# Altium schematic symbol library Socket.SchLib: 57 symbols (part 2 of 2)
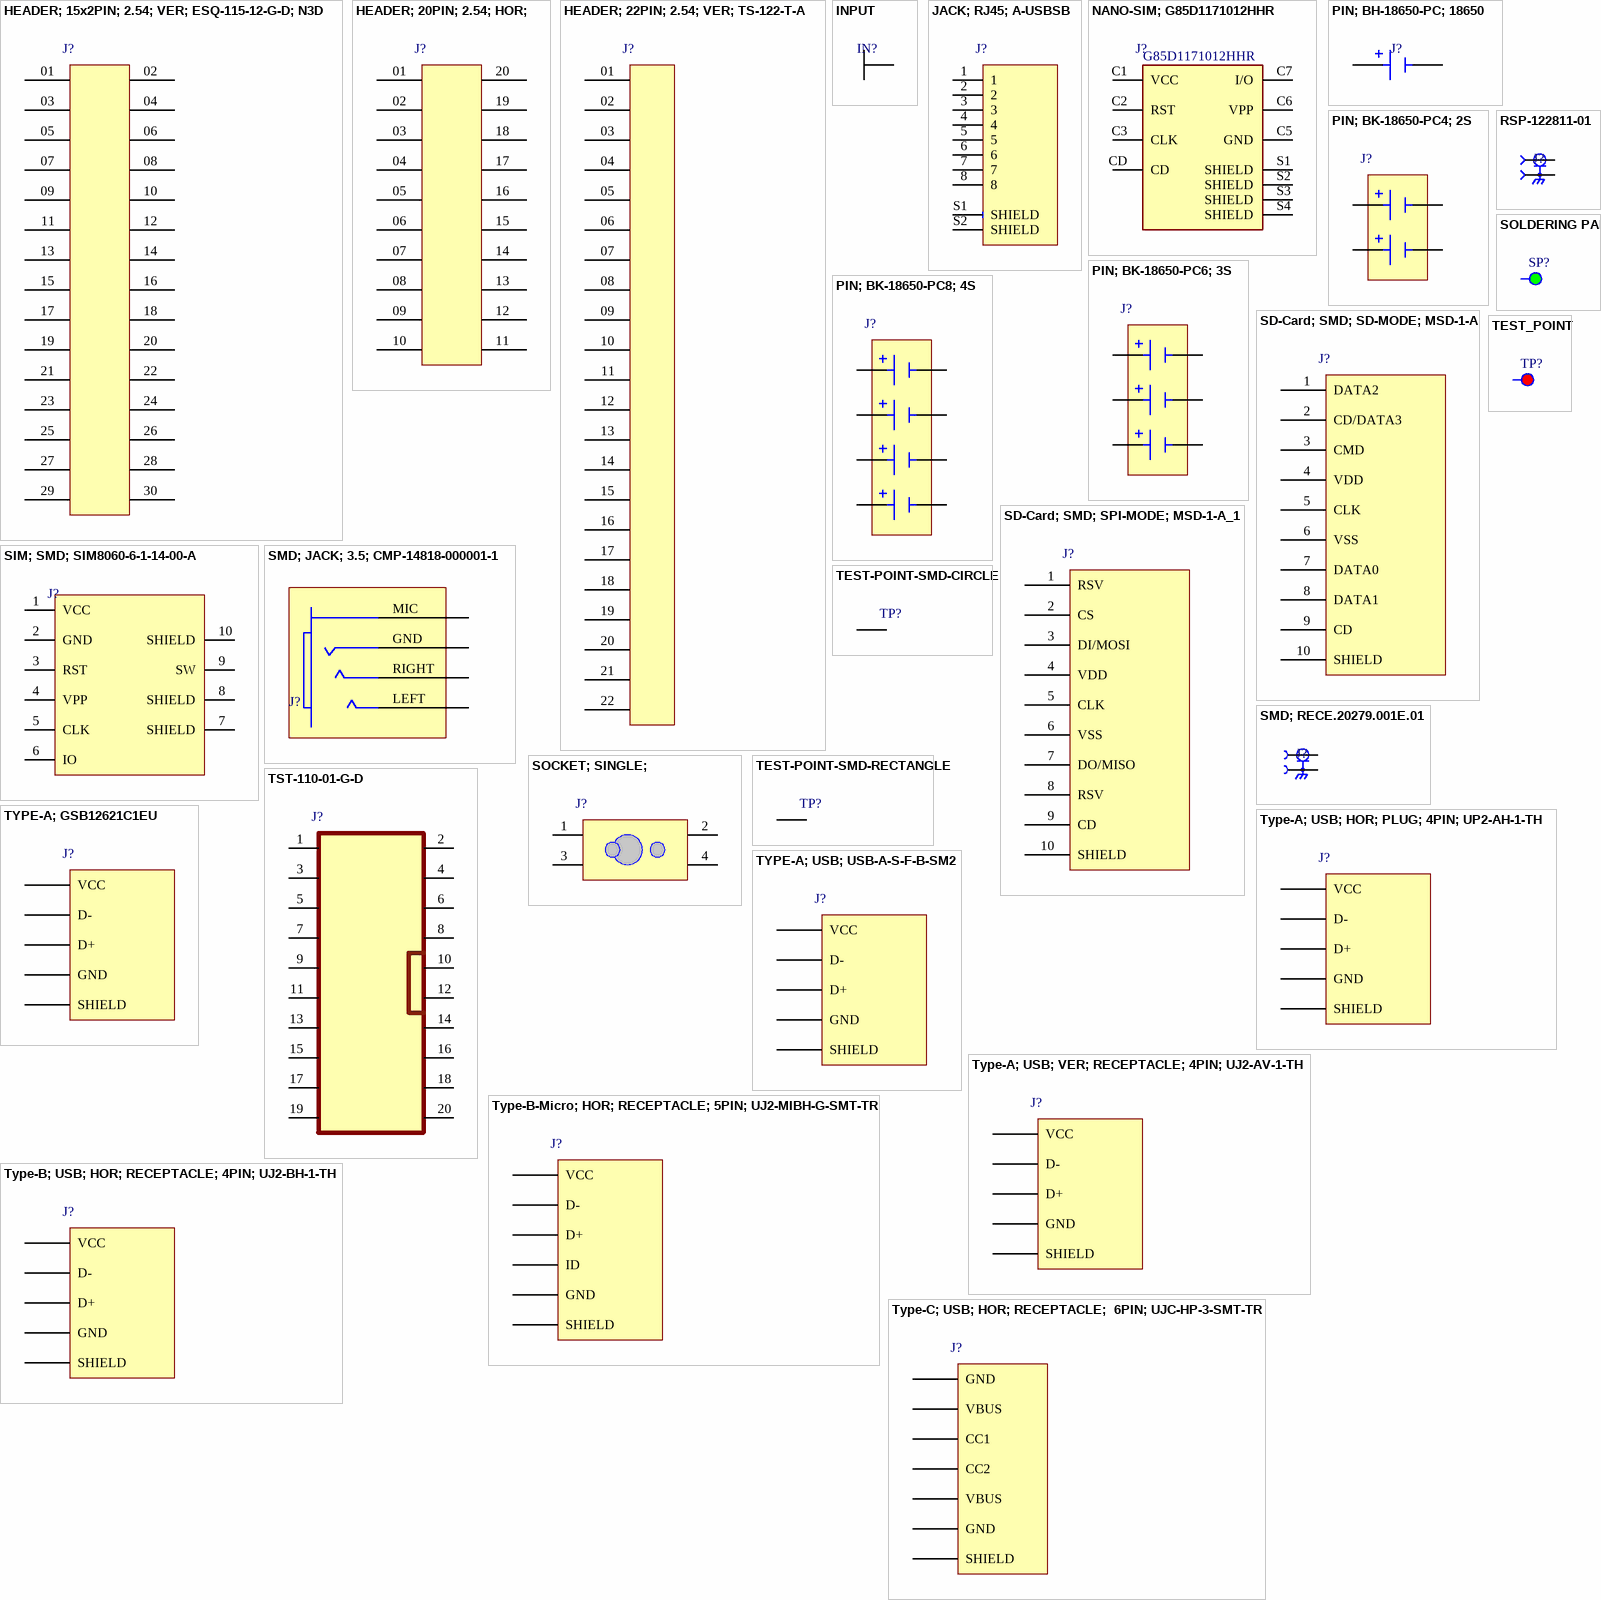
[diagram p3: symbols HEADER; 15x2PIN; 2.54; VER; ESQ-115-12-G-D; N3D to Type-C; USB; HOR; RECEPTACLE;  6PIN; UJC-HP-3-SMT-TR]

## SOCKET; SINGLE;
designator J?, comment Connector Header Through Hole 4 position 0.100" (2.54mm)  (value not drawn)
Conn Unshrouded Header HDR 4 POS 2.54mm Solder ST Thru-Hole Automotive Bulk; Manufacturer: Samtec; Manufacturer Part Number: TSW-104-14-L-S; Designer: TVBac; Supplier: Digikey; Supplier Part Number: SAM1055-04-ND; RoHS: Yes; Category: Connectors; Stock: 1246; Pricing: 1=0.43, 10=0.377, 100=0.3107, 500=0.2702, 1000=0.22291, 5000=0.19589, 10000=0.18238 (USD); ComponentLink1URL: https://datasheet.ciiva.com/25618/0900766b81154476-25618487.pdf?src-supplier=Rs; ComponentLink1Description: https://datasheet.ciiva.com/25618/0900766b81154476-25618487.pdf?src-supplier=Rs; ComponentLink2URL: https://datasheet.ciiva.com/10190/htsw-th-10190703.pdf?src-supplier=Avnet; ComponentLink2Description: https://datasheet.ciiva.com/10190/htsw-th-10190703.pdf?src-supplier=Avnet; ComponentLink3Description: Link Digikey; ComponentLink3URL: https://www.digikey.com/en/products/detail/samtec-inc/TSW-104-14-L-S/1102620
footprint SOCKET-SINGLE-WEV1081H
pins: 1, 2, 3, 4

## SOLDERING PAD
designator SP?, comment SP  (value not drawn)  (no BOM)
Soldering Pad
footprint SOLDERING PAD BIG
footprint SOLDERING PAD SMALL
footprint SOLDERING PAD BIG 2
footprint SOLDERING PAD BIG 3
footprint SOLDERING PAD BIG 4
footprint SOLDERING PAD BIG 5
pins: 1

## TEST-POINT-SMD-CIRCLE
designator TP?  (value not drawn)
footprint TEST - POINT - CIRCLE
pins: 1

## TEST-POINT-SMD-RECTANGLE
designator TP?  (value not drawn)
footprint TEST-POINT - RECTANGLE
pins: 1

## TEST_POINT
designator TP?, comment Test Point  (value not drawn)
footprint TEST_POINT
footprint TEST_POINT Small
pins: 1

## TST-110-01-G-D
designator J?, comment Connector Header Through Hole 20 position 0.100" (2.54mm)  (value not drawn)
Conn Shrouded Header (4 Sides) HDR 20 POS 2.54mm Solder ST Top Entry Thru-Hole Bulk; Manufacturer: Samtec; Manufacturer Part Number: TST-110-01-G-D; Gender: 29Gender; Supplier: Avnet; Supplier Part Number: TST-110-01-G-D; RoHS: Yes; Category: Connectors; Stock: 3089; Pricing: 1=1.69024 (USD); RoHS Compliant: 5897YesNo; ComponentLink1URL: https://datasheet.ciiva.com/36535/184htst-36535291.pdf?src-supplier=Onlinecomponents.com; ComponentLink1Description: https://datasheet.ciiva.com/36535/184htst-36535291.pdf?src-supplier=Onlinecomponents.com; ComponentLink2URL: https://datasheet.ciiva.com/739/tst-mkt-739851.pdf?src-supplier=Digikey; ComponentLink2Description: https://datasheet.ciiva.com/739/tst-mkt-739851.pdf?src-supplier=Digikey; ComponentLink3URL: https://datasheet.ciiva.com/9474/htst-9474933.pdf?src-supplier=Avnet; ComponentLink3Description: https://datasheet.ciiva.com/9474/htst-9474933.pdf?src-supplier=Avnet; System: Connector
footprint CONN-10x2-2.54-SI
pins: 1, 2, 3, 4, 5, 6, 7, 8, 9, 10, 11, 12, 13, 14, 15, 16, 17, 18, 19, 20

## TYPE-A; GSB12621C1EU
designator J?, comment USB2.0 A RECEPT,RIGHT ANGLE, SIN  (value not drawn)
Manufacturer: Amphenol; Manufacturer Part Number: GSB12621C1EU; Supplier: Digikey; Supplier Part Number: 664-GSB12621C1EUTR-ND; RoHS: No; Pricing: 18000=0.29575 (USD)
footprint TYPE-A-RECEPTACLE-GSB12621C1EU-AIIC
footprint TYPE-A-RECEPTACLE-GSB12621C1EU-AIIC - CHANGE
footprint TYPE-A-RECEPTACLE-629104190121 (USB 2.0 Type A Horizontal SMT Short Type)
footprint TYPE-A-RECEPTACLE-629104190121 - CHANGE (USB 2.0 Type A Horizontal SMT Short Type)
pins: 1 VCC, 2 D-, 3 D+, 4 GND, SHIELD

## Type-A; USB; HOR; PLUG; 4PIN; UP2-AH-1-TH
designator J?, comment USB-A (USB TYPE-A) USB 2.0 Plug Connector 4 Position Through Hole, Right Angle  (value not drawn)
Type A, USB 2.0, 1 A, Right Angle, Through Hole, USB Plug Connector; Manufacturer: CUI Devices; Manufacturer Part Number: UP2-AH-1-TH; Number of Contacts: 4; Mating Cycles: 1500; Shielding: Shielded; Number of Ports: 1; Designer: TVBac; Supplier: Digikey; Supplier Part Number: 102-3996-ND; RoHS: Yes; Category: USB Connectors; Stock: 7149; Pricing: 1=0.8, 10=0.606, 25=0.5448, 40=0.516, 144=0.44611, 288=0.41299, 576=0.38293, 1008=0.3607, 2448=0.32886 (USD); Mounting Technology: Through Hole,Horizontal; Contact Plating: Gold; Insulation Color: Black; Min Operating Temperature: -20°C; Max Operating Temperature: 85°C; Connector Type: USB; Series: UP2; Termination: Solder; Flammability Rating: UL94 V-0; ComponentLink1URL: https://www.cuidevices.com/product/resource/digikeypdf/up2-ah-th.pdf?src-supplier=Digikey; ComponentLink1Description: https://www.cuidevices.com/product/resource/digikeypdf/up2-ah-th.pdf?src-supplier=Digikey; ComponentLink2URL: https://datasheet.octopart.com/UP2-AH-1-TH-CUI-Devices-datasheet-175928036.pdf?src-supplier=Future+Electronics; ComponentLink2Description: https://datasheet.octopart.com/UP2-AH-1-TH-CUI-Devices-datasheet-175928036.pdf?src-supplier=Future+Electronics; ComponentLink3URL: https://datasheet.octopart.com/UP2-AH-1-TH-CUI-Devices-datasheet-103115219.pdf?src-supplier=Electro+Sonic; ComponentLink3Description: https://datasheet.octopart.com/UP2-AH-1-TH-CUI-Devices-datasheet-103115219.pdf?src-supplier=Electro+Sonic; ComponentLink4URL: https://datasheet.octopart.com/UP2-AH-1-TH-CUI-Devices-datasheet-175925752.pdf?src-supplier=Master+Electronics; ComponentLink4Description: https://datasheet.octopart.com/UP2-AH-1-TH-CUI-Devices-datasheet-175925752.pdf?src-supplier=Master+Electronics; ComponentLink5Description: Link Digikey; ComponentLink5URL: https://www.digikey.com/en/products/detail/same-sky-formerly-cui-devices/UP2-AH-1-TH/6187911
footprint TYPE-A-HOR-PLUG-4PIN-SS
pins: 1 VCC, 2 D-, 3 D+, 4 GND, SHIELD

## TYPE-A; USB; USB-A-S-F-B-SM2
designator J?, comment USB-A (USB TYPE-A) USB 2.0 Receptacle Connector 4 Position Surface Mount, Right Angle; Through Hole  (value not drawn)
Conn USB 2.0 Type A RCP 4 POS 2mm/2.5mm Solder RA SMD 4 Terminal 1 Port Tray; Manufacturer: Samtec; Manufacturer Part Number: USB-A-S-F-B-SM2; Number of Contacts: 4; Number of Ports: 1; Mating Cycles: 1500; Supplier: Avnet; Supplier Part Number: USB-A-S-F-B-SM2; RoHS: Yes; Category: Connectors; Stock: 1595; Pricing: 1=1.8228, 10=1.4235, 30=1.1349, 50=1.12905, 100=1.1232 (USD); Mounting Technology: Surface Mount,Horizontal; Contact Plating: Gold; Insulation Color: Black; Min Operating Temperature: -50°C; Max Operating Temperature: 85°C; Packaging: Tray; Termination: Solder; Orientation: Right Angle; Gender: Receptacle; Connector Type: USB; Series: USB-A; Radiation Hardening: No; Flammability Rating: UL94 V-0; RoHS Compliant: Yes; ComponentLink1URL: http://www.samtec.com/documents/webfiles/pdf/usb_a.pdf?src-supplier=Avnet; ComponentLink1Description: http://www.samtec.com/documents/webfiles/pdf/usb_a.pdf?src-supplier=Avnet; ComponentLink2URL: http://suddendocs.samtec.com/prints/usb-a-s-x-x-sm2-x-xx-mkt.pdf?src-supplier=Digikey; ComponentLink2Description: http://suddendocs.samtec.com/prints/usb-a-s-x-x-sm2-x-xx-mkt.pdf?src-supplier=Digikey
footprint TYPE-A-RECEPTACLE-USB-A-S-F-B-SM2
pins: 1 VCC, 2 D-, 3 D+, 4 GND, SHIELD

## Type-A; USB; VER; RECEPTACLE; 4PIN; UJ2-AV-1-TH
designator J?, comment USB-A (USB TYPE-A) USB 2.0 Receptacle Connector 4 Position Through Hole  (value not drawn)
Conn USB Type A F 4 POS 2mm Solder ST Thru-Hole 4 Terminal 1 Port; Manufacturer: CUI Devices; Manufacturer Part Number: UJ2-AV-1-TH; Designer: TVBac; Supplier: Digikey; Supplier Part Number: 102-3995-ND; RoHS: Yes; Category: USB Connectors; Stock: 8259; Pricing: 1=0.67, 10=0.583, 25=0.5332, 40=0.50175, 80=0.48088, 240=0.43904, 480=0.41815, 960=0.34497, 2400=0.3136 (USD); ComponentLink1URL: https://www.cuidevices.com/product/resource/digikeypdf/uj2-av-th.pdf?src-supplier=Digikey; ComponentLink1Description: https://www.cuidevices.com/product/resource/digikeypdf/uj2-av-th.pdf?src-supplier=Digikey; ComponentLink2URL: https://datasheet.octopart.com/UJ2-AV-1-TH-CUI-Devices-datasheet-141000536.pdf?src-supplier=Master+Electronics; ComponentLink2Description: https://datasheet.octopart.com/UJ2-AV-1-TH-CUI-Devices-datasheet-141000536.pdf?src-supplier=Master+Electronics; ComponentLink3Description: Link Digikey; ComponentLink3URL: https://www.digikey.com/en/products/detail/same-sky/UJ2-AV-1-TH/6187910
footprint TYPE-A-VER-RECEPTACLE-4PIN-SS
pins: 1 VCC, 2 D-, 3 D+, 4 GND, SHIELD

## Type-B-Micro; HOR; RECEPTACLE; 5PIN; UJ2-MIBH-G-SMT-TR
designator J?, comment USB - micro B USB 2.0 Receptacle Connector 5 Position Surface Mount  (value not drawn)
Conn Micro USB 2.0 Type B RCP 5 POS 0.65mm Solder RA SMD 5 Terminal 1 Port T/R; Manufacturer: Same Sky; Manufacturer Part Number: UJ2-MIBH-G-SMT-TR; Designer: TVBac; Supplier: Digikey; Supplier Part Number: 2223-UJ2-MIBH-G-SMT-TRCT-ND; RoHS: No; Category: USB Connectors; Stock: 5027; Pricing: 1=0.52, 10=0.392, 25=0.3524, 50=0.3254, 100=0.3005, 250=0.271, 500=0.25104 (USD); ComponentLink1Description: Link Digikey; ComponentLink1URL: https://www.digikey.com/en/products/detail/same-sky/UJ2-MIBH-G-SMT-TR/13680627
footprint TYPE-B-MICRO-HOR-RECEPTACLE-5PIN-SS
pins: 1 VCC, 2 D-, 3 D+, 4 ID, 5 GND, SHIELD

## Type-B; USB; HOR; RECEPTACLE; 4PIN; UJ2-BH-1-TH
designator J?, comment USB-B (USB TYPE-B) USB 2.0 Receptacle Connector 4 Position Through Hole, Right Angle  (value not drawn)
Conn USB Type B F 4 POS 2.54mm Solder RA Thru-Hole 4 Terminal 1 Port; Manufacturer: CUI Devices; Manufacturer Part Number: UJ2-BH-1-TH; USB Standard: 6108USBStandard; Designer: TVBac; Supplier: Digikey; Supplier Part Number: 102-3999-ND; RoHS: Yes; Category: USB Connectors; Stock: 51035; Pricing: 1=0.63, 10=0.547, 25=0.4996, 40=0.47025, 98=0.45061, 294=0.41146, 490=0.39188, 980=0.3233, 2450=0.29391 (USD); Pins: 4NUMBER; Features: 6303FeaturesType; Orientation: 5496OrientationType; Lead Free: 5697LeadFree; ComponentLink1URL: https://datasheet.octopart.com/UJ2-BH-1-TH-CUI-Devices-datasheet-142372266.pdf?src-supplier=Future+Electronics; ComponentLink1Description: https://datasheet.octopart.com/UJ2-BH-1-TH-CUI-Devices-datasheet-142372266.pdf?src-supplier=Future+Electronics; ComponentLink2URL: https://www.cuidevices.com/product/resource/digikeypdf/uj2-bh-th.pdf?src-supplier=Digikey; ComponentLink2Description: https://www.cuidevices.com/product/resource/digikeypdf/uj2-bh-th.pdf?src-supplier=Digikey; ComponentLink3URL: https://datasheet.octopart.com/UJ2-BH-1-TH-CUI-Devices-datasheet-141002029.pdf?src-supplier=Electro+Sonic; ComponentLink3Description: https://datasheet.octopart.com/UJ2-BH-1-TH-CUI-Devices-datasheet-141002029.pdf?src-supplier=Electro+Sonic; ComponentLink4Description: Link Digikey; ComponentLink4URL: https://www.digikey.com/en/products/detail/same-sky/UJ2-BH-1-TH/6187914
footprint TYPE-B-HOR-RECEPTACLE-4PIN-SS
pins: 1 VCC, 2 D-, 3 D+, 4 GND, SHIELD

## Type-C; USB; HOR; RECEPTACLE;  6PIN; UJC-HP-3-SMT-TR
designator J?, comment USB-C (USB TYPE-C) Receptacle Connector 24 (6+18 Dummy) Position Surface Mount, Right Angle; Through Hole  (value not drawn)
Conn USB Type C RCP 6 POS 1mm/1.23mm Solder RA SMD 6 Terminal 1 Port T/R; Manufacturer: CUI Devices; Manufacturer Part Number: UJC-HP-3-SMT-TR; Mating Cycles: 10000; Shielding: Shielded; Number of Ports: 1; Current Rating: 3A; Number of Contacts: 6; Voltage Rating: 20V; Designer: TVBac; Supplier: Future Electronics; Supplier Part Number: 3186524; RoHS: Yes; Category: USB Connectors; Pricing: 1=0.67, 10=0.605, 40=0.57, 150=0.54, 500=0.495 (USD); Mounting Technology: Surface Mount,Through Hole,Horizontal; Contact Plating: Gold; Insulation Color: Black; Contact Material: Nickel,Gold; Min Operating Temperature: -40°C; Max Operating Temperature: 80°C; Connector Type: USB; Series: UJC; Gender: Receptacle; Termination: Solder; Orientation: Horizontal; Height: 3.36mm; Flammability Rating: UL94 V-0; ComponentLink1URL: https://datasheet.octopart.com/UJC-HP-3-SMT-TR-CUI-Devices-datasheet-142372933.pdf?src-supplier=Future+Electronics; ComponentLink1Description: https://datasheet.octopart.com/UJC-HP-3-SMT-TR-CUI-Devices-datasheet-142372933.pdf?src-supplier=Future+Electronics; ComponentLink2URL: https://datasheet.octopart.com/UJC-HP-3-SMT-TR-CUI-Devices-datasheet-175928035.pdf?src-supplier=Future+Electronics; ComponentLink2Description: https://datasheet.octopart.com/UJC-HP-3-SMT-TR-CUI-Devices-datasheet-175928035.pdf?src-supplier=Future+Electronics; ComponentLink3URL: https://www.cuidevices.com/product/resource/digikeypdf/ujc-hp-3-smt-tr.pdf?src-supplier=Digikey; ComponentLink3Description: https://www.cuidevices.com/product/resource/digikeypdf/ujc-hp-3-smt-tr.pdf?src-supplier=Digikey; ComponentLink4URL: https://datasheet.octopart.com/UJC-HP-3-SMT-TR-CUI-Devices-datasheet-154834584.pdf?src-supplier=Electro+Sonic; ComponentLink4Description: https://datasheet.octopart.com/UJC-HP-3-SMT-TR-CUI-Devices-datasheet-154834584.pdf?src-supplier=Electro+Sonic; ComponentLink5URL: https://datasheet.octopart.com/UJC-HP-3-SMT-TR-CUI-Devices-datasheet-175928035.pdf?src-supplier=Master+Electronics; ComponentLink5Description: https://datasheet.octopart.com/UJC-HP-3-SMT-TR-CUI-Devices-datasheet-175928035.pdf?src-supplier=Master+Electronics; ComponentLink6Description: Link Digikey; ComponentLink6URL: https://www.digikey.com/en/products/detail/same-sky-formerly-cui-devices/UJC-HP-3-SMT-TR/12173295
footprint TYPE-C-HOR-RECEPTACLE-6PIN-SS
pins: A5 CC1, A9 VBUS, A12 GND, B5 CC2, B9 VBUS, B12 GND, SHIELD

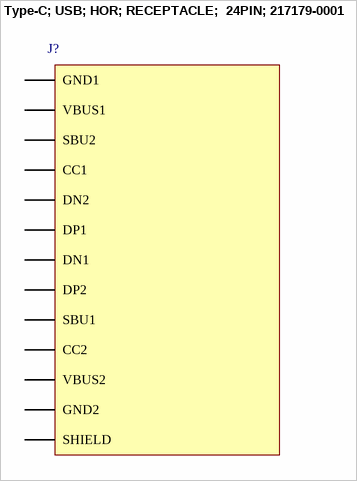
[diagram p2: symbol Type-C; USB; HOR; RECEPTACLE;  24PIN; 217179-0001]

## Type-C; USB; HOR; RECEPTACLE;  24PIN; 217179-0001
designator J?, comment USB-C (USB TYPE-C) USB 2.0 Receptacle Connector 24 (16+8 Dummy) Position Surface Mount, Right Angle; Through Hole  (value not drawn)
USB Connector, 16 Contact(s), Female, Right Angle, Surface Mount Terminal, Locking, Receptacle; Manufacturer: Molex; Manufacturer Part Number: 217179-0001; USB Standard: USB 2.0; Current Rating: 1.25A; Number of Contacts: 16; Voltage Rating: 30V; Designer: TVBac; Supplier: Avnet; Supplier Part Number: 35AJ1973; RoHS: No; Category: Connectors; Stock: 7200; Pricing: 1=1.02, 25=0.853, 100=0.722, 250=0.677, 500=0.631 (USD); Contact Material: Nickel,Gold; Min Operating Temperature: -40°C; Max Operating Temperature: 85°C; Gender: Receptacle; Height: 3.36mm; ComponentLink1Description: Link Digikey; ComponentLink1URL: https://www.digikey.com/en/products/detail/molex/2171790001/13913749
footprint TYPE-C-HOR-RECEPTACLE-24PIN-MOLEX
pins: A1B12 GND1, A4B9 VBUS1, A5 CC1, A6 DP1, A7 DN1, A8 SBU1, B1A12 GND2, B4A9 VBUS2, B5 CC2, B6 DP2, B7 DN2, B8 SBU2, SHIELD